# Altium schematic symbol library BLDC_Gimbal_Lib.SCHLIB: 57 symbols (part 1 of 2)
Pins are listed as number, name and electrical type; pins without a type are passive.

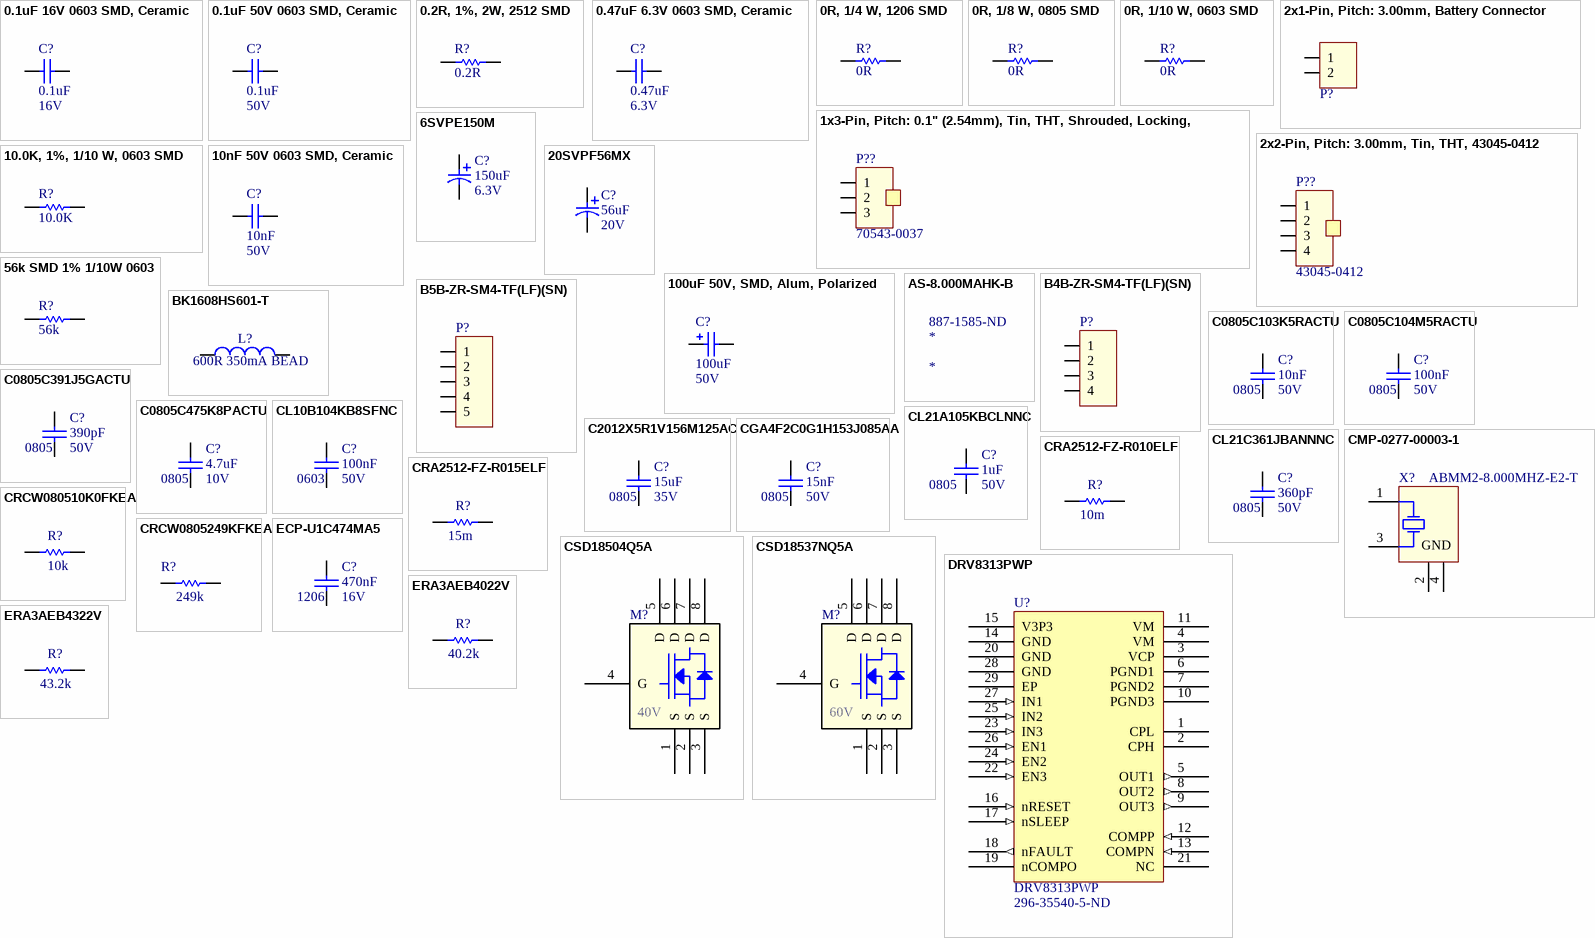
[diagram p0: symbols 0.1uF 16V 0603 SMD, Ceramic to ERA3AEB4322V]

## 0.1uF 16V 0603 SMD, Ceramic
designator C?, comment 0.1uF  Voltage: 16V
Capacitor, Ceramic, 16V, +/- 10%, 0603 SMD, X7R; Mfg#: 0603YC104KAT2A; Mfg: AVX Corporation; Published: 2017-11-16; LatestRevisionDate: 2017-11-16; Publisher: UVic AERO, Taylor Long; PackageDescription: Chip Capacitor; Value: 0.1uF; Supplier 1: Digi-Key; Supplier Part Number 1: 478-1239-1-ND
footprint CAPC1608N(0603") (Chip Capacitor, Body 1.6x0.8mm (0603"), IPC Medium Density)
pins: 1, 2
1 alternate drawing of the same symbol

## 0.1uF 50V 0603 SMD, Ceramic
designator C?, comment 0.1uF  Voltage: 50V
Capacitor, Ceramic, 50V, +/- 10%, 0603 SMD, X7R; Published: May 3, 2010; LatestRevisionDate: May 3, 2010; Publisher: TRAXX Automation Ltd.; PackageDescription: Chip Capacitor; Value: 0.1uF; Supplier 1: Digi-Key; Supplier Part Number 1: 490-1519-1-ND
footprint CAPC1608N(0603") (Chip Capacitor, Body 1.6x0.8mm (0603"), IPC Medium Density)
pins: 1, 2
1 alternate drawing of the same symbol

## 0.2R, 1%, 2W, 2512 SMD
designator R?, comment 0.2R
Resistor, 1%, 2W, 2512 SMD, +/-200ppm/C, Thick Film; Published: 2017-11-16; LatestRevisionDate: 2017-11-16; Publisher: UVic AERO, Taylor Long; PackageDescription: Chip Resistor; Value: 0.2R; Power: 2W; Supplier 1: Digi-Key; Supplier Part Number 1: CSRN2512FKR200CT-ND
footprint RESC6332N(2512") (Chip Resistor, Body 6.3x3.2mm (2512"), IPC Medium Density)
pins: 1, 2
1 alternate drawing of the same symbol

## 0.47uF 6.3V 0603 SMD, Ceramic
designator C?, comment 0.47uF  Voltage: 6.3V
Capacitor, Ceramic, 6.3V, +/- 10%, 0603 SMD, X7R; Mfg#: GRM188R70J474KA01D; Mfg: Murata Electronics North America; Published: 2017-11-16; LatestRevisionDate: 2017-11-16; Publisher: UVic AERO, Taylor Long; PackageDescription: Chip Capacitor; Value: 0.47uF; Supplier 1: Digi-Key; Supplier Part Number 1: 490-6416-1-ND
footprint CAPC1608N(0603") (Chip Capacitor, Body 1.6x0.8mm (0603"), IPC Medium Density)
pins: 1, 2
1 alternate drawing of the same symbol

## 0R, 1/4 W, 1206 SMD
designator R?, comment 0R
Resistor, 0R, 1/4 W, 1206 SMD, +/-200ppm/C, Thick Film; Manufacturer Part Number 1: RC1206JR-070RL; Manufacturer 1: Yageo; Power: 1/4W; Published: May 15, 2011; LatestRevisionDate: Feb 23, 2019; LatestRevisionNote: Added MFG; Publisher: UVic AERO Team; PackageDescription: Chip Resistor; Value: 0R; Supplier 1: Digi-Key; Supplier Part Number 1: 311-0.0ERCT-ND
footprint RESC3216N(1206") (Chip Resistor, Body 3.2x1.6mm(1206"), IPC Medium Density)
pins: 1, 2
1 alternate drawing of the same symbol

## 0R, 1/8 W, 0805 SMD
designator R?, comment 0R
Resistor, 0R, 1/8 W, 0805 SMD, +/-200ppm/C, Thick Film; Manufacturer: Yageo; Manufacturer Part Number: RC0805JR-070RL; Power: 1/8W; Resistance: 0mR; Tolerance: 5%; Voltage Rating: 150V; Power Rating: 125mW; Temperature Coefficient: 200ppm/°C; Published: April 30, 2010; LatestRevisionDate: April 30, 2010; Publisher: TRAXX Automation Ltd.; PackageDescription: Chip Resistor; Value: 0R; Supplier 1: Digi-Key; Supplier Part Number 1: 311-0.0ARCT-ND; Stock 1: 16038844; Pricing 1: 1 = 0.10000, 10 = 0.03900, 25 = 0.02840, 50 = 0.02160, 100 = 0.01590, 250 = 0.01216, 500 = 0.00972, 1000 = 0.00716 (USD); RoHS: Yes; Case/Package: 0805; Number of Pins: 2; Case Code (Imperial): 0805; Case Code (Metric): 2012; Contact Plating: Tin; Min Operating Temperature: -55°C; Max Operating Temperature: 155°C; Packaging: Tape and Reel; Voltage Rating (DC): 150V; Termination: SMD/SMT; Composition: Thick Film; Military Standard: Not; Length: 2mm; Height: 0.5mm; Width: 1.25mm; Depth: 1.25mm; Radiation Hardening: No; REACH SVHC: Unknown; Lead Free: Lead Free; ComponentLink1URL: https://datasheet.ciiva.com/7941/1738694-7941861.pdf?src-supplier=Element14; ComponentLink1Description: https://datasheet.ciiva.com/7941/1738694-7941861.pdf?src-supplier=Element14; ComponentLink2URL: https://datasheet.ciiva.com/11819/0900766b8106beab-11819430.pdf?src-supplier=RSComponents; ComponentLink2Description: https://datasheet.ciiva.com/11819/0900766b8106beab-11819430.pdf?src-supplier=RSComponents; ComponentLink3URL: https://datasheet.ciiva.com/7941/1738694-7941862.pdf?src-supplier=Element14; ComponentLink3Description: https://datasheet.ciiva.com/7941/1738694-7941862.pdf?src-supplier=Element14; ComponentLink4URL: https://datasheet.ciiva.com/7941/1738694-7941863.pdf?src-supplier=Element14; ComponentLink4Description: https://datasheet.ciiva.com/7941/1738694-7941863.pdf?src-supplier=Element14; ComponentLink5URL: https://datasheet.ciiva.com/15190/getdatasheetpartid-330685-15190028.pdf?src-supplier=Verical; ComponentLink5Description: https://datasheet.ciiva.com/15190/getdatasheetpartid-330685-15190028.pdf?src-supplier=Verical
footprint RESC2012N(0805") (Chip Resistor, Body 2.0x1.3mm (0805"), IPC Medium Density)
pins: 1, 2
1 alternate drawing of the same symbol

## 0R, 1/10 W, 0603 SMD
designator R?, comment 0R
Resistor, 0R, 1/10 W, 0603 SMD, 0R, +/-200ppm/C, Thick Film; Power: 1/10W; Published: Jan 14, 2011; Publisher: TRAXX Automation Ltd.; PackageDescription: Chip Resistor; Value: 0R; Supplier 1: Digi-Key; Supplier Part Number 1: 311-0.0GRCT-ND
footprint RESC1608N(0603") (Chip Resistor, Body 1.6x0.8mm (0603"), IPC Medium Density)
pins: 1, 2
1 alternate drawing of the same symbol

## 1x3-Pin, Pitch: 0.1" (2.54mm), Tin, THT, Shrouded, Locking, 70543-0037
designator P??, comment 70543-0037
1x3-Pin, Pitch: 0.1" (2.54mm), Tin, THT, Shrouded, Locking, 70543-0037; Mfg: Molex Inc; ReviewedBy: Matthew Fitz; ReviewedNote: There should be tin pins instead of gold; Publisher: UVic AERO, Kirk Richardson; Published: 2014-03-16; LatestRevisionNote: Changed # of pins from 4 to 3; LatestRevisionDate: 2014-03-18; Mfg#: 70543-0037; ReviewedDate: 2014-03-19; Verified: Yes; Supplier 1: Digi-Key; Supplier Part Number 1: WM4825-ND; LatestRevisionBy: *
footprint Header-3Pin, THT, Shrouded (Header, 3-Pin, 0.1" Pitch, Shrouded, THT)
pins: 1, 2, 3

## 2x1-Pin, Pitch: 3.00mm, Battery Connector
designator P?  (value not drawn)
XT60 - 2x1-Pin, Pitch: 3.00mm, Battery Connector; Publisher: UVic AERO, Luke Mills; Published: 2016-12-15; ReviewedBy: *; ReviewedDate: *; Verified: *
footprint XT60
pins: 1, 2

## 2x2-Pin, Pitch: 3.00mm, Tin, THT, 43045-0412
designator P??, comment 43045-0412
2x2-Pin, Pitch: 3.00mm, Tin, THT, Shrouded, Locking, 43045-0412; Mfg: Molex; ReviewedBy: Kirk Richardson; Publisher: UVic AERO, Taylor Eby; Published: 2014-03-13; LatestRevisionNote: Fixed footprint so it's aligned to pin 1; LatestRevisionDate: 2014-03-23; ReviewedDate: 2014-03-23; Verified: Yes; Supplier 1: Digi-Key; Supplier Part Number 1: WM1790-ND; Mfg#: 43045-0412; LatestRevisionBy: Kirk Richardson; ReviewedNote: *
footprint Header-4Pin, 2x2, THT, Locking, Tin (Header, 4-Pin, 2x2, 3mm Pitch, Locking, Shrouded, THT, Tin)
pins: 1, 2, 3, 4

## 6SVPE150M
designator C?  Voltage: 6.3V  Capacitance: 150uF  (hidden comment: *)
CAP ALUM POLY 150UF 20% 6.3V SMD; Manufacturer: Panasonic; Manufacturer Part Number: 6SVPE150M; ESR (Equivalent Series Resistance): 12mR; Ripple Current: 3.52A; Leakage Current: 500uA; Polarity: Polar; Life (Hours): 2000Hour; Dissipation Factor: 12%; Supplier 1: Digi-Key; Stock 1: 8524; Pricing 1: 1 = 1.00000, 10 = 0.75800, 100 = 0.54210, 500 = 0.41972 (USD); RoHS: Yes; Mount: Surface Mount; Case/Package: Radial; Number of Pins: 6; Min Operating Temperature: -55°C; Max Operating Temperature: 105°C; Tolerance: 20%; Voltage Rating: 6.3V; Packaging: Tape and Reel; Voltage Rating (DC): 6.3V; Package Quantity: 1500; Ripple Current (AC): 3.52A; Termination: SMD/SMT; Diameter: 5mm; Length: 5.9mm; Height: 5.9mm; Height - Seated (Max): 0.236inch; REACH SVHC: No SVHC; Lead Free: Lead Free; ComponentLink1URL: https://datasheet.ciiva.com/25767/1734359-25767741.pdf?src-supplier=Farnell; ComponentLink1Description: https://datasheet.ciiva.com/25767/1734359-25767741.pdf?src-supplier=Farnell; Supplier Part Number 1: P16614CT-ND
footprint PCAP_SVP_B6-M
pins: 1, 2

## 10.0K, 1%, 1/10 W, 0603 SMD
designator R?, comment 10.0K
Resistor, 1%, 1/10 W, 0603 SMD, 10.0K, +/-100ppm/C, Thick Film; Power: 1/10W; Published: Jan 14, 2011; Publisher: TRAXX Automation Ltd.; PackageDescription: Chip Resistor; Value: 10.0K; Supplier 1: Digi-Key; Supplier Part Number 1: 311-10.0KHRCT-ND
footprint RESC1608N(0603") (Chip Resistor, Body 1.6x0.8mm (0603"), IPC Medium Density)
pins: 1, 2
1 alternate drawing of the same symbol

## 10nF 50V 0603 SMD, Ceramic
designator C?, comment 10nF  Voltage: 50V
Capacitor, Ceramic, 50V, +/- 10%, 0603 SMD, X7R; Published: March 28, 2012; Publisher: UVic AERO; PackageDescription: Chip Capacitor; Value: 10nF; Supplier 1: Digi-Key; Supplier Part Number 1: 399-1091-1-ND
footprint CAPC1608N(0603") (Chip Capacitor, Body 1.6x0.8mm (0603"), IPC Medium Density)
pins: 1, 2
1 alternate drawing of the same symbol

## 20SVPF56MX
designator C?  Voltage: 20V  Capacitance: 56uF  (hidden comment: *)
CAP ALUM POLY 56UF 20% 20V SMD; Manufacturer: Panasonic; Manufacturer Part Number: 20SVPF56MX; ESR (Equivalent Series Resistance): 30mR; Ripple Current: 2.8A; Polarity: Polar; Leakage Current: 224uA; Life (Hours): 5000Hour; Dissipation Factor: 12%; Supplier 1: Digi-Key; Stock 1: 4599; Pricing 1: 1 = 1.02000, 10 = 0.80900, 100 = 0.60650, 500 = 0.45826 (USD); RoHS: Yes; Mount: Surface Mount; Number of Pins: 6; Min Operating Temperature: -55°C; Max Operating Temperature: 105°C; Tolerance: 20%; Packaging: Tape and Reel; Voltage Rating: 20V; Ripple Current (AC): 2.8A; Package Quantity: 1500; Voltage Rating (DC): 20V; Termination: SMD/SMT; Diameter: 5mm; Length: 5.9mm; Height: 5.9mm; Height - Seated (Max): 0.236inch; REACH SVHC: No SVHC; ComponentLink1URL: https://datasheet.ciiva.com/25746/1734360-25746730.pdf?src-supplier=Farnell; ComponentLink1Description: https://datasheet.ciiva.com/25746/1734360-25746730.pdf?src-supplier=Farnell; ComponentLink2URL: https://datasheet.ciiva.com/24066/svpf-os-262415-24066271.pdf?src-supplier=Mouser; ComponentLink2Description: https://datasheet.ciiva.com/24066/svpf-os-262415-24066271.pdf?src-supplier=Mouser; ComponentLink3URL: https://datasheet.ciiva.com/48542/svpf-eng-ds-48542383.pdf?src-supplier=Distrelec; ComponentLink3Description: https://datasheet.ciiva.com/48542/svpf-eng-ds-48542383.pdf?src-supplier=Distrelec; Case/Package: Radial; Supplier Part Number 1: P16502CT-ND
footprint PCAP_SVP_B6-M
pins: 1, 2

## 56k SMD 1% 1/10W 0603
designator R?, comment 56k
±1% 0.1W, 1/10W Chip Resistor 0603; Published: 2017-10-20; LatestRevisionDate: *; LatestRevisionNote: *; Publisher: UVic AERO, David Alaga; PackageDescription: Chip Resistor; Value: 56k; Power: 1/10W; LatestRevisionBy: *; Supplier 1: Digi-Key; Supplier Part Number 1: YAG3619CT-ND
footprint RESC1608N(0603") (Chip Resistor, Body 1.6x0.8mm (0603"), IPC Medium Density)
pins: 1, 2
1 alternate drawing of the same symbol

## 100uF 50V, SMD, Alum, Polarized
designator C?, comment 100uF  Voltage: 50V
Capacitor, Polarized, Aluminum, 50V, +/- 20%, SMD; Mfg#: EEE-1HA101UP; Mfg: Panasonic; Published: 2017-11-16; LatestRevisionDate: 2017-11-16; Publisher: UVic AERO, Taylor Long; PackageDescription: Radial, Can - SMD; Value: 100uF; Supplier 1: Digi-Key; Supplier Part Number 1: PCE3917CT-ND
footprint CAPAE10083X105M (Aluminum Electrolytic Capacitor, Body 8.30x8.30x10.50mm, IPC Low Density)
pins: 1, 2
1 alternate drawing of the same symbol

## AS-8.000MAHK-B
designator *  Supplier Part Number 1: 887-1585-ND
Crystals 8MHz 30ppm 20pF -40C to 85C; Manufacturer: TXC; Manufacturer Part Number: AS-8.000MAHK-B; ESR (Equivalent Series Resistance): 80R; Supplier 1: Digi-Key; Stock 1: 3402; Pricing 1: 1 = 0.57000, 10 = 0.47300, 50 = 0.42520, 100 = 0.37800, 500 = 0.35910, 1000 = 0.30240, 2500 = 0.28350, 5000 = 0.27405, 10000 = 0.26460 (USD); RoHS: Yes; Mount: Through Hole; Number of Pins: 2; Min Operating Temperature: -40°C; Max Operating Temperature: 85°C; Frequency: 8MHz; Frequency Tolerance: 30ppm; Load Capacitance: 20pF; Package Quantity: 1000; Packaging: Bulk; Tolerance: 30ppm; Frequency Stability: 30ppm; Termination: Radial; Length: 11.5mm; Height: 0.145inch; Width: 0.197inch; Depth: 5mm; Ratings: AEC-Q200; REACH SVHC: No SVHC; ComponentLink1URL: https://datasheet.ciiva.com/8047/1639152-8047962.pdf?src-supplier=Element14; ComponentLink1Description: https://datasheet.ciiva.com/8047/1639152-8047962.pdf?src-supplier=Element14

## B4B-ZR-SM4-TF(LF)(SN)
designator P?  (value not drawn)
Conn Shrouded Header HDR 4 POS 1.5mm Solder ST SMD T/R; Manufacturer: JST; Number of Positions: 4; Current Rating: 1A; Gender: Male; Connector Type: Male Pin; Contact Resistance: 30mR; Max Voltage Rating (AC): 50V; Supplier 1: Digi-Key; Manufacturer Part Number: B4B-ZR-SM4-TF(LF)(SN); Stock 1: 27718; Pricing 1: 1 = 0.71000, 10 = 0.67000, 100 = 0.51380, 500 = 0.44682 (USD); RoHS: Yes; Mount: Surface Mount; Contact Plating: Tin; Contact Material: Tin; Color: Natural; Housing Color: Beige; Housing Material: Polyamide; Min Operating Temperature: -25°C; Max Operating Temperature: 85°C; Number of Rows: 1; Packaging: Tape and Reel; Termination: Solder; Number of Contacts: 4; Max Current Rating: 1A; Fastening Type: Detent; Orientation: Straight; Length: 9mm; Height: 7.2mm; Pitch: 1.5mm; Width: 3.5mm; Depth: 3.7mm; Lead Free: Lead Free; ComponentLink1URL: https://datasheet.ciiva.com/26924/getdatasheetpartid-640935-26924037.pdf?src-supplier=Verical; ComponentLink1Description: https://datasheet.ciiva.com/26924/getdatasheetpartid-640935-26924037.pdf?src-supplier=Verical; Supplier Part Number 1: 455-1683-1-ND
footprint 1x4-PIN ZH 1.5mm Pitch
pins: 1, 2, 3, 4

## B5B-ZR-SM4-TF(LF)(SN)
designator P?  (value not drawn)
CONN HEADER ZH TOP 5POS 1.5MM; Manufacturer: JST; Manufacturer Part Number: B5B-ZR-SM4-TF(LF)(SN); Number of Positions: 5; Gender: Male; Current Rating: 1A; Connector Type: Male Pin; Pitch: 0.059inch; Supplier 1: Digi-Key; Stock 1: 52019; Pricing 1: 1 = 0.790000, 10 = 0.742000, 100 = 0.568600, 500 = 0.494420 (USD); RoHS: Yes; Mount: Surface Mount; Contact Material: Tin; Contact Plating: Tin; Housing Color: Natural; Housing Material: Nylon; Color: Natural; Number of Rows: 1; Packaging: Tape and Reel; Number of Contacts: 5; Termination: Solder; Fastening Type: Detent; Length: 10.5mm; Height: 7.2mm; Width: 3.5mm; Lead Free: Lead Free; ComponentLink1URL: http://www.jst-mfg.com/product/pdf/eng/eZH.pdf?src-supplier=Digi-Key; ComponentLink1Description: http://www.jst-mfg.com/product/pdf/eng/eZH.pdf?src-supplier=Digi-Key; ComponentLink2URL: http://www.jst-mfg.com/product/pdf/eng/eZR.pdf?src-supplier=Future+Electronics; ComponentLink2Description: http://www.jst-mfg.com/product/pdf/eng/eZR.pdf?src-supplier=Future+Electronics; Supplier Part Number 1: 455-1684-1-ND
footprint 1x5-PIN ZH 1.5mm Pitch
pins: 1, 2, 3, 4, 5

## BK1608HS601-T
designator L?, comment 600R 350mA BEAD
FERRITE BEAD 600 OHM 0603 1LN; Manufacturer: Taiyo Yuden; Manufacturer Part Number: BK1608HS601-T; Tolerance: 25%; DC Resistance (DCR): 450mR; Test Frequency: 100MHz; Number of Lines: 1; Shielding: Shielded; Supplier 1: Digi-Key; Stock 1: 27923; Pricing 1: 1 = 0.10000, 10 = 0.07900, 25 = 0.07200, 50 = 0.06480, 100 = 0.04760, 250 = 0.03460, 500 = 0.03170, 1000 = 0.02738 (USD); RoHS: Yes; Mount: Surface Mount; Case/Package: 0603; Number of Pins: 2; Core Material: Ferrite; Case Code (Metric): 1608; Case Code (Imperial): 0603; Min Operating Temperature: -55°C; Max Operating Temperature: 125°C; Packaging: Tape and Reel; Package Quantity: 1; Impedance: 600R; Max DC Current: 350mA; Termination: SMD/SMT; Max Current Rating: 350mA; Frequency: 100MHz; Length: 0.063inch; Height: 0.95mm; Width: 0.031inch; Depth: 0.95mm; Lead Free: Lead Free; Halogen Free: Halogen Free; REACH SVHC: Unknown; ComponentLink1URL: https://datasheet.ciiva.com/1011/bk1608hs601-t-ss-1011856.pdf?src-supplier=Digi-Key; ComponentLink1Description: https://datasheet.ciiva.com/1011/bk1608hs601-t-ss-1011856.pdf?src-supplier=Digi-Key; ComponentLink2URL: https://datasheet.ciiva.com/30231/126bk1608hs601-t-30231402.pdf?src-supplier=Onlinecomponents.com; ComponentLink2Description: https://datasheet.ciiva.com/30231/126bk1608hs601-t-30231402.pdf?src-supplier=Onlinecomponents.com; ComponentLink3URL: https://datasheet.ciiva.com/16000/bk1608hs601-t1-16000876.pdf?src-supplier=Onlinecomponents.com; ComponentLink3Description: https://datasheet.ciiva.com/16000/bk1608hs601-t1-16000876.pdf?src-supplier=Onlinecomponents.com; ComponentLink4URL: https://datasheet.ciiva.com/1011/mlci07-e-1011857.pdf?src-supplier=Digi-Key; ComponentLink4Description: https://datasheet.ciiva.com/1011/mlci07-e-1011857.pdf?src-supplier=Digi-Key; ComponentLink5URL: https://datasheet.ciiva.com/1011/mlci07-e-1011855.pdf?src-supplier=Digi-Key; ComponentLink5Description: https://datasheet.ciiva.com/1011/mlci07-e-1011855.pdf?src-supplier=Digi-Key; Supplier Part Number 1: 587-1874-1-ND
footprint RESC1608N(0603") (Chip Resistor, Body 1.6x0.8mm (0603"), IPC Medium Density)
pins: 1, 2

## C0805C103K5RACTU
designator C?, comment 10nF  Case/Package: 0805  Voltage Rating: 50V
CAP CER 10nF 50V, +/- 10%, 0805 SMD, X7R C0805C103K5RACTU; Manufacturer: KEMET; Dielectric Material: Ceramic; Published: August 31, 2013; Publisher: UVic AERO; PackageDescription: Chip Capacitor; Value: 10nF; Supplier 1: Digi-Key; Supplier Part Number 1: 399-1158-1-ND; Supplier 2: Allied Electronics; Manufacturer Part Number: C0805C103K5RACTU; Stock 2: 0; RoHS: Yes; Mount: Surface Mount; Number of Pins: 2; Case Code (Metric): 2012; Case Code (Imperial): 0805; Min Operating Temperature: -55°C; Max Operating Temperature: 125°C; Voltage Rating (DC): 50V; Capacitance: 10nF; Tolerance: 10%; Packaging: Tape and Reel; Dielectric: X7R; Package Quantity: 1; Termination: SMD/SMT; Length: 2mm; Height: 0.78mm; Width: 0.049inch; Lead Pitch: 0.75mm; Depth: 1.25mm; Thickness: 0.035inch; Radiation Hardening: No; REACH SVHC: No SVHC; ComponentLink1URL: https://datasheet.ciiva.com/5904/kem-c1002-x7r-smd-5904709.pdf?src-supplier=Farnell; ComponentLink1Description: https://datasheet.ciiva.com/5904/kem-c1002-x7r-smd-5904709.pdf?src-supplier=Farnell; ComponentLink2URL: https://datasheet.ciiva.com/28672/1851736-28672830.pdf?src-supplier=Element14; ComponentLink2Description: https://datasheet.ciiva.com/28672/1851736-28672830.pdf?src-supplier=Element14; ComponentLink3URL: https://datasheet.ciiva.com/7842/kem-c1002-x7r-smd-7842533.pdf?src-supplier=Element14; ComponentLink3Description: https://datasheet.ciiva.com/7842/kem-c1002-x7r-smd-7842533.pdf?src-supplier=Element14; ComponentLink4URL: https://datasheet.ciiva.com/26923/getdatasheetpartid-759674-26923957.pdf?src-supplier=Verical; ComponentLink4Description: https://datasheet.ciiva.com/26923/getdatasheetpartid-759674-26923957.pdf?src-supplier=Verical; ComponentLink5URL: https://datasheet.ciiva.com/39122/docfinderpartnumberc0402c102k5ractu-39122923.pdf?src-supplier=Onlinecomponents.com; ComponentLink5Description: https://datasheet.ciiva.com/39122/docfinderpartnumberc0402c102k5ractu-39122923.pdf?src-supplier=Onlinecomponents.com; ComponentLink6URL: https://datasheet.ciiva.com/7172/1828800-7172412.pdf?src-supplier=Newark; ComponentLink6Description: https://datasheet.ciiva.com/7172/1828800-7172412.pdf?src-supplier=Newark; Supplier Part Number 2: 70095550
footprint CAPC2012N(0805") (Chip Capacitor, Body 2.0x1.3mm (0805"), IPC Medium Density)
pins: 1, 2
1 alternate drawing of the same symbol

## C0805C104M5RACTU
designator C?  Capacitance: 100nF  Voltage: 50V  Case/Package: 0805  (hidden comment: *)
CAP CER 0.1UF 50V X7R 0805; Manufacturer: KEMET; Manufacturer Part Number: C0805C104M5RACTU; Dielectric Material: Ceramic; Tolerance: 20%; Dissipation Factor: 2.5%; Supplier 1: Mouser; Stock 1: 425898; Pricing 1: 1 = 0.10000, 10 = 0.03500, 50 = 0.03500, 100 = 0.02400, 1000 = 0.01600, 10000 = 0.01100 (USD); RoHS: Yes; Mount: Surface Mount; Number of Pins: 2; Weight: 0.000194oz; Case Code (Metric): 2012; Case Code (Imperial): 0805; Min Operating Temperature: -55°C; Max Operating Temperature: 125°C; Packaging: Tape and Reel; Voltage Rating (DC): 50V; Package Quantity: 4000; Voltage Rating: 50V; Termination: SMD/SMT; Length: 2mm; Height: 0.9mm; Depth: 1.25mm; Width: 0.049inch; Thickness: 0.035inch; Radiation Hardening: No; REACH SVHC: No SVHC; ComponentLink1URL: https://datasheet.ciiva.com/14593/70095383-14593577.pdf?src-supplier=Allied+Electronics; ComponentLink1Description: https://datasheet.ciiva.com/14593/70095383-14593577.pdf?src-supplier=Allied+Electronics; ComponentLink2URL: https://datasheet.ciiva.com/14610/70095383-14610619.pdf?src-supplier=Allied+Electronics; ComponentLink2Description: https://datasheet.ciiva.com/14610/70095383-14610619.pdf?src-supplier=Allied+Electronics; ComponentLink3URL: https://datasheet.ciiva.com/7842/1851736-7842540.pdf?src-supplier=Element14; ComponentLink3Description: https://datasheet.ciiva.com/7842/1851736-7842540.pdf?src-supplier=Element14; Supplier Part Number 1: 80-C0805C104M5R; Dielectric: X7R
footprint CAPC2012N(0805") (Chip Capacitor, Body 2.0x1.3mm (0805"), IPC Medium Density)
pins: 1, 2

## C0805C391J5GACTU
designator C?  Voltage: 50V  Case/Package: 0805  Capacitance: 390pF  (hidden comment: *)
CAP CER 390PF 50V C0G/NP0 0805; Manufacturer: KEMET; Manufacturer Part Number: C0805C391J5GACTU; Dielectric Material: Ceramic; Tolerance: 5%; Dielectric: C0G; Dissipation Factor: 0.1%; Supplier 1: Digi-Key; Stock 1: 200410; Pricing 1: 1 = 0.16000, 10 = 0.11500, 100 = 0.05400, 500 = 0.03788, 1000 = 0.03136 (USD); RoHS: Yes; Mount: Surface Mount; Case Code (Metric): 2012; Case Code (Imperial): 0805; Contact Material: Tin; Min Operating Temperature: -55°C; Max Operating Temperature: 125°C; Package Quantity: 1; Voltage Rating: 50V; Packaging: Tape and Reel; Voltage Rating (DC): 50V; Termination: SMD/SMT; Length: 2mm; Height: 0.78mm; Width: 0.049inch; Thickness: 0.035inch; Lead Pitch: 0.75mm; Depth: 1.25mm; Radiation Hardening: No; REACH SVHC: No SVHC; Lead Free: Lead Free; ComponentLink1URL: https://datasheet.ciiva.com/144/docfinderpartnumber-c0805c391j5gactu-144976.pdf?src-supplier=Digi-Key; ComponentLink1Description: https://datasheet.ciiva.com/144/docfinderpartnumber-c0805c391j5gactu-144976.pdf?src-supplier=Digi-Key; ComponentLink2URL: https://datasheet.ciiva.com/18100/getdatasheetpartid-35246-18100917.pdf?src-supplier=Verical; ComponentLink2Description: https://datasheet.ciiva.com/18100/getdatasheetpartid-35246-18100917.pdf?src-supplier=Verical; ComponentLink3URL: https://datasheet.ciiva.com/14601/70095383-14601640.pdf?src-supplier=Allied+Electronics; ComponentLink3Description: https://datasheet.ciiva.com/14601/70095383-14601640.pdf?src-supplier=Allied+Electronics; ComponentLink4URL: https://datasheet.ciiva.com/7842/1372242-7842602.pdf?src-supplier=Element14; ComponentLink4Description: https://datasheet.ciiva.com/7842/1372242-7842602.pdf?src-supplier=Element14; ComponentLink5URL: https://datasheet.ciiva.com/49516/1567367-49516570.pdf?src-supplier=Jameco; ComponentLink5Description: https://datasheet.ciiva.com/49516/1567367-49516570.pdf?src-supplier=Jameco; Supplier Part Number 1: 399-1132-1-ND
footprint CAPC2012N(0805") (Chip Capacitor, Body 2.0x1.3mm (0805"), IPC Medium Density)
pins: 1, 2

## C0805C475K8PACTU
designator C?, comment 4.7uF  Case/Package: 0805  Voltage Rating (DC): 10V
CAP CER 4.7UF 10V, +/- 10%, 0805 SMD, X7R; Manufacturer: KEMET; Manufacturer Part Number: C0805C475K8PACTU; Dielectric Material: Ceramic; Dielectric: X5R; Published: April 29, 2010; LatestRevisionDate: April 29, 2010; Publisher: TRAXX Automation Ltd.; PackageDescription: Chip Capacitor; Value: 4.7uF; Supplier 1: Digi-Key; Supplier Part Number 1: 399-3133-1-ND; Stock 1: 393227; Pricing 1: 1 = 0.29000, 10 = 0.19500, 100 = 0.09860, 500 = 0.06746, 1000 = 0.05967 (USD); RoHS: Yes; Mount: Surface Mount; Min Operating Temperature: -55°C; Max Operating Temperature: 85°C; Tolerance: 10%; Packaging: Tape and Reel; Capacitance: 4.7uF; Length: 2mm; Height: 1.25mm; Depth: 1.25mm; Radiation Hardening: No; Lead Free: Lead Free; ComponentLink1URL: https://datasheet.ciiva.com/18193/getdatasheetpartid-179373-18193909.pdf?src-supplier=Verical; ComponentLink1Description: https://datasheet.ciiva.com/18193/getdatasheetpartid-179373-18193909.pdf?src-supplier=Verical; ComponentLink2URL: https://datasheet.ciiva.com/6126/40889-6126699.pdf?src-supplier=Farnell; ComponentLink2Description: https://datasheet.ciiva.com/6126/40889-6126699.pdf?src-supplier=Farnell; ComponentLink3URL: https://datasheet.ciiva.com/28614/1918694-28614763.pdf?src-supplier=Element14; ComponentLink3Description: https://datasheet.ciiva.com/28614/1918694-28614763.pdf?src-supplier=Element14; ComponentLink4URL: https://datasheet.ciiva.com/7842/40889-7842616.pdf?src-supplier=Element14; ComponentLink4Description: https://datasheet.ciiva.com/7842/40889-7842616.pdf?src-supplier=Element14; ComponentLink5URL: https://datasheet.ciiva.com/46385/1791935-46385676.pdf?src-supplier=Element14; ComponentLink5Description: https://datasheet.ciiva.com/46385/1791935-46385676.pdf?src-supplier=Element14
footprint CAPC2012N(0805") (Chip Capacitor, Body 2.0x1.3mm (0805"), IPC Medium Density)
pins: 1, 2
1 alternate drawing of the same symbol

## C2012X5R1V156M125AC
designator C?  Voltage Rating: 35V  Case/Package: 0805  Capacitance: 15uF  (hidden comment: *)
CAP CER 15UF 35V X5R 0805; Manufacturer: TDK; Manufacturer Part Number: C2012X5R1V156M125AC; Dielectric Material: Ceramic; Tolerance: 20%; Supplier 1: Digi-Key; Stock 1: 48431; Pricing 1: 1 = 0.85000, 10 = 0.62800, 100 = 0.43060, 500 = 0.34086, 1000 = 0.28704 (USD); RoHS: Yes; Mount: Surface Mount; Case Code (Metric): 2012; Case Code (Imperial): 0805; Min Operating Temperature: -55°C; Max Operating Temperature: 85°C; Package Quantity: 2000; Packaging: Tape and Reel; Dielectric: X5R; Termination: SMD/SMT; Composition: Ceramic; Voltage Rating (DC): 35V; Length: 0.079inch; Height: 1.25mm; Width: 0.049inch; Thickness: 0.057inch; Lead Free: Lead Free; ComponentLink1URL: https://datasheet.ciiva.com/14893/tdkmlcccaprange-14893918.pdf?src-supplier=Digi-Key; ComponentLink1Description: https://datasheet.ciiva.com/14893/tdkmlcccaprange-14893918.pdf?src-supplier=Digi-Key; ComponentLink2URL: https://datasheet.ciiva.com/14893/tdkmlcccaprange-14893919.pdf?src-supplier=Digi-Key; ComponentLink2Description: https://datasheet.ciiva.com/14893/tdkmlcccaprange-14893919.pdf?src-supplier=Digi-Key; Supplier Part Number 1: 445-14423-1-ND
footprint CAPC2012N(0805") (Chip Capacitor, Body 2.0x1.3mm (0805"), IPC Medium Density)
pins: 1, 2

## CGA4F2C0G1H153J085AA
designator C?  Voltage Rating: 50V  Case/Package: 0805  Capacitance: 15nF  (hidden comment: *)
CAP, 0.015µF, 50V, 5%, C0G/NP0, 0805; Manufacturer: TDK; Manufacturer Part Number: CGA4F2C0G1H153J085AA; Dielectric: C0G; Supplier 1: Digi-Key; Stock 1: 25718; Pricing 1: 1 = 0.33000, 10 = 0.23000, 100 = 0.13800, 500 = 0.10350, 1000 = 0.08740 (USD); RoHS: Yes; Mount: Surface Mount; Weight: 0.000194oz; Case Code (Metric): 2012; Case Code (Imperial): 0805; Min Operating Temperature: -55°C; Max Operating Temperature: 125°C; Tolerance: 5%; Packaging: Tape and Reel; Voltage Rating (DC): 50V; Termination: SMD/SMT; Package Quantity: 1; Composition: Ceramic; Length: 2mm; Height: 0.85mm; Depth: 1.25mm; Width: 0.049inch; Thickness: 0.037inch; Ratings: AEC-Q200; Lead Free: Lead Free; REACH SVHC: No SVHC; ComponentLink1URL: https://datasheet.ciiva.com/24218/cga4f2c0g1h153j085aa-265904-24218633.pdf?src-supplier=Mouser; ComponentLink1Description: https://datasheet.ciiva.com/24218/cga4f2c0g1h153j085aa-265904-24218633.pdf?src-supplier=Mouser; ComponentLink2URL: https://datasheet.ciiva.com/7975/1807242-7975403.pdf?src-supplier=Element14; ComponentLink2Description: https://datasheet.ciiva.com/7975/1807242-7975403.pdf?src-supplier=Element14; Supplier Part Number 1: 445-6948-1-ND
footprint CAPC2012N(0805") (Chip Capacitor, Body 2.0x1.3mm (0805"), IPC Medium Density)
pins: 1, 2

## CL10B104KB8SFNC
designator C?, comment 100nF  Case Code (Imperial): 0603  Voltage Rating: 50V
CAP CER 0.1UF 50V X7R 0603; Manufacturer: Samsung; Manufacturer Part Number: CL10B104KB8SFNC; Tolerance: 10%; Supplier 1: Digi-Key; Stock 1: 1859763; Pricing 1: 1 = 0.10000, 10 = 0.02900, 100 = 0.01300, 500 = 0.00928, 1000 = 0.00729 (USD); RoHS: Yes; Mount: Surface Mount; Case/Package: 0603; Case Code (Metric): 1608; Contact Plating: Tin; Min Operating Temperature: -55°C; Max Operating Temperature: 125°C; Package Quantity: 4000; Packaging: Tape and Reel; Capacitance: 100nF; Dielectric: X7R; Features: Soft Termination; Length: 1.6mm; Height: 0.8mm; Width: 0.031inch; Thickness: 0.035inch; Depth: 0.8mm; Radiation Hardening: No; Lead Free: Lead Free; ComponentLink1URL: https://datasheet.ciiva.com/25714/cl10b104kb8sfnc-25714514.pdf?src-supplier=Digi-Key; ComponentLink1Description: https://datasheet.ciiva.com/25714/cl10b104kb8sfnc-25714514.pdf?src-supplier=Digi-Key; Supplier Part Number 1: 1276-1936-1-ND
footprint CAPC1608N(0603") (Chip Capacitor, Body 1.6x0.8mm (0603"), IPC Medium Density)
pins: 1, 2

## CL21A105KBCLNNC
designator C?  Voltage Rating: 50V  Case/Package: 0805  Capacitance: 1uF  (hidden comment: *)
CAP CER 1uF 50V X5R 10% SMD 0805 85C Cardboard T/R; Manufacturer: Samsung; Manufacturer Part Number: CL21A105KBCLNNC; Supplier 1: Digi-Key; Stock 1: 343658; Pricing 1: 1 = 0.17000, 10 = 0.11400, 100 = 0.05780, 500 = 0.03954, 1000 = 0.03498 (USD); RoHS: Yes; Mount: Surface Mount; Case Code (Metric): 2012; Case Code (Imperial): 0805; Min Operating Temperature: -55°C; Max Operating Temperature: 85°C; Tolerance: 10%; Package Quantity: 1; Packaging: Tape and Reel; Dielectric: X5R; Length: 2mm; Height: 0.85mm; Width: 0.049inch; Depth: 1.25mm; Thickness: 0.037inch; Radiation Hardening: No; Lead Free: Lead Free; ComponentLink1URL: https://datasheet.ciiva.com/25775/cl21a105kbclnnc-25775425.pdf?src-supplier=Digi-Key; ComponentLink1Description: https://datasheet.ciiva.com/25775/cl21a105kbclnnc-25775425.pdf?src-supplier=Digi-Key; Supplier Part Number 1: 1276-2396-1-ND
footprint CAPC2012N(0805") (Chip Capacitor, Body 2.0x1.3mm (0805"), IPC Medium Density)
pins: 1, 2

## CL21C361JBANNNC
designator C?  Voltage Rating: 50V  Case/Package: 0805  Capacitance: 360pF  (hidden comment: *)
CAP CER 360pF 50V C0G 5% SMD 0805 125C Paper T/R; Manufacturer: Samsung; Manufacturer Part Number: CL21C361JBANNNC; Material: Ceramic; Supplier 1: Digi-Key; Stock 1: 20000; Pricing 1: 4000 = 0.02290, 8000 = 0.02130, 12000 = 0.02024 (USD); RoHS: Yes; Mount: Surface Mount; Case Code (Metric): 2012; Case Code (Imperial): 0805; Min Operating Temperature: -55°C; Max Operating Temperature: 125°C; Tolerance: 5%; Dielectric: C0G; Package Quantity: 1; Packaging: Tape and Reel; Voltage Rating (DC): 50V; Length: 2mm; Height: 0.65mm; Depth: 1.25mm; Width: 0.049inch; Thickness: 0.03inch; Radiation Hardening: No; ComponentLink1URL: https://datasheet.ciiva.com/25772/cl21c361jbannnc-25772337.pdf?src-supplier=Digi-Key; ComponentLink1Description: https://datasheet.ciiva.com/25772/cl21c361jbannnc-25772337.pdf?src-supplier=Digi-Key; ComponentLink2URL: https://datasheet.ciiva.com/29200/453725-da-01-en-vs-kondensator-0805-29200056.pdf?src-supplier=Conrad; ComponentLink2Description: https://datasheet.ciiva.com/29200/453725-da-01-en-vs-kondensator-0805-29200056.pdf?src-supplier=Conrad; Supplier Part Number 1: 1276-2650-2-ND
footprint CAPC2012N(0805") (Chip Capacitor, Body 2.0x1.3mm (0805"), IPC Medium Density)
pins: 1, 2

## CMP-0277-00003-1
designator X?, comment ABMM2-8.000MHZ-E2-T
Ceramic Surface Mount Low Profile Quartz Crystal, 8 MHz, -20 to 70 degC, 4-Pin 6 x 3.6 x 1.2 mm SMD, RoHS, 1000pcs / Reel; Manufacturer: Abracon; ESR: 72 Ohm Max.; Frequency: 8 MHz; Shunt Capacitance C0: 7 pF Max.; Load Capacitance CL: 18 pF Typ.; Frequency Tolerance: 20ppm; Load Capacitance: 18pF; ESR (Equivalent Series Resistance): 72R; ComponentLink3Description: Package Specification; PackageDescription: 4-Pin SMD, Body 6 x 3.6 mm, Pitch 4.4 mm; DatasheetVersion: Jan-13; ComponentLink1URL: http://www.abracon.com/; ComponentLink2URL: http://www.abracon.com/Resonators/ABMM2.pdf; Temperature Range: -20 to 70 degC; Mounting Technology: Surface Mount; RoHS: TRUE; PartNumber: ABMM2-8.000MHZ-E2-T; ComponentLink2Description: Datasheet; ComponentLink3URL: http://www.abracon.com/Resonators/ABMM2.pdf; ComponentLink1Description: Manufacturer URL; Packing: 1000pcs / Reel; Supplier 1: Digi-Key; Manufacturer Part Number: ABMM2-8.000MHZ-E2-T; Stock 1: 53374; Pricing 1: 1 = 0.72000, 10 = 0.63300, 50 = 0.59120, 100 = 0.52250, 500 = 0.49500 (USD); Case/Package: CSMD; Number of Pins: 4; Min Operating Temperature: -20°C; Max Operating Temperature: 70°C; Tolerance: 20ppm; Package Quantity: 1000; Packaging: Tape and Reel; Frequency Stability: 20ppm; Termination: SMD/SMT; Composition: Ceramic; Series Resistance: 72R; Accuracy: 20ppm; Length: 6mm; Height: 0.047inch; Width: 3.6mm; Depth: 3.6mm; REACH SVHC: No SVHC; Lead Free: Lead Free; ComponentLink4URL: https://datasheet.ciiva.com/7998/1682206-7998656.pdf?src-supplier=Element14; ComponentLink4Description: https://datasheet.ciiva.com/7998/1682206-7998656.pdf?src-supplier=Element14; ComponentLink5URL: https://datasheet.ciiva.com/4945/abmm2-40161-4945441.pdf?src-supplier=Mouser; ComponentLink5Description: https://datasheet.ciiva.com/4945/abmm2-40161-4945441.pdf?src-supplier=Mouser; ComponentLink6URL: https://datasheet.ciiva.com/3176/abmm2-3176155.pdf?src-supplier=Avnet; ComponentLink6Description: https://datasheet.ciiva.com/3176/abmm2-3176155.pdf?src-supplier=Avnet; ComponentLink7URL: https://datasheet.ciiva.com/855/abmm2-855405.pdf?src-supplier=Digi-Key; ComponentLink7Description: https://datasheet.ciiva.com/855/abmm2-855405.pdf?src-supplier=Digi-Key; ComponentLink8URL: https://datasheet.ciiva.com/855/abmm2-855406.pdf?src-supplier=Digi-Key; ComponentLink8Description: https://datasheet.ciiva.com/855/abmm2-855406.pdf?src-supplier=Digi-Key; ComponentLink9URL: https://datasheet.ciiva.com/855/abmm2-855407.pdf?src-supplier=Digi-Key; ComponentLink9Description: https://datasheet.ciiva.com/855/abmm2-855407.pdf?src-supplier=Digi-Key; Supplier Part Number 1: 535-9628-1-ND
footprint ABRA-ABMM2-4_V (SMD, 4-Leads, Body 6.2x3.9mm, Pitch 4.4mm, Height 1.2mm)
pins: 1 X1, 2 GND (power), 3 X2, 4 GND (power)

## CRA2512-FZ-R010ELF
designator R?  Resistance: 10m  (hidden comment: *)
RES SMD 10 MOHM, 2512 [6432 Metric], 3 W,  1%, CR Series; Manufacturer: Bourns; Manufacturer Part Number: CRA2512-FZ-R010ELF; Power Rating: 3W; Temperature Coefficient: 75ppm/°C; Supplier 1: Allied Electronics; Stock 1: 0; Pricing 1: 8000 = 0.22000 (USD); RoHS: Yes; Mount: Surface Mount; Case/Package: 2512; Number of Pins: 2; Contact Plating: Tin; Case Code (Imperial): 2512; Case Code (Metric): 6432; Min Operating Temperature: -55°C; Max Operating Temperature: 170°C; Tolerance: 1%; Packaging: Tape and Reel; Package Quantity: 1; Termination: SMD/SMT; Composition: Metal Film; Number of Terminations: 2; Military Standard: Not; Max Power Dissipation: 3W; Features: Moisture Resistant; Length: 6.4mm; Height: 0.6mm; Width: 3.2mm; Depth: 3.2mm; Radiation Hardening: No; REACH SVHC: No SVHC; ComponentLink1URL: https://datasheet.ciiva.com/15225/getdatasheetpartid-73855-15225377.pdf?src-supplier=Verical; ComponentLink1Description: https://datasheet.ciiva.com/15225/getdatasheetpartid-73855-15225377.pdf?src-supplier=Verical; ComponentLink2URL: https://datasheet.ciiva.com/22692/1828418-22692561.pdf?src-supplier=Element14; ComponentLink2Description: https://datasheet.ciiva.com/22692/1828418-22692561.pdf?src-supplier=Element14; ComponentLink3URL: https://datasheet.ciiva.com/11810/0900766b80ddce06-11810742.pdf?src-supplier=RSComponents; ComponentLink3Description: https://datasheet.ciiva.com/11810/0900766b80ddce06-11810742.pdf?src-supplier=RSComponents; ComponentLink4URL: https://datasheet.ciiva.com/2481/cra-2481796.pdf?src-supplier=Digi-Key; ComponentLink4Description: https://datasheet.ciiva.com/2481/cra-2481796.pdf?src-supplier=Digi-Key; ComponentLink5URL: https://datasheet.ciiva.com/2481/cra-2481797.pdf?src-supplier=Digi-Key; ComponentLink5Description: https://datasheet.ciiva.com/2481/cra-2481797.pdf?src-supplier=Digi-Key; ComponentLink6URL: https://datasheet.ciiva.com/16775/70154444-16775925.pdf?src-supplier=Allied+Electronics; ComponentLink6Description: https://datasheet.ciiva.com/16775/70154444-16775925.pdf?src-supplier=Allied+Electronics; ComponentLink7URL: https://datasheet.ciiva.com/2481/cra-2481798.pdf?src-supplier=Digi-Key; ComponentLink7Description: https://datasheet.ciiva.com/2481/cra-2481798.pdf?src-supplier=Digi-Key; ComponentLink8URL: https://datasheet.ciiva.com/16941/cra-16941096.pdf?src-supplier=Avnet+Europe; ComponentLink8Description: https://datasheet.ciiva.com/16941/cra-16941096.pdf?src-supplier=Avnet+Europe; ComponentLink9URL: https://datasheet.ciiva.com/1480/1849485-1480650.pdf?src-supplier=Element14; ComponentLink9Description: https://datasheet.ciiva.com/1480/1849485-1480650.pdf?src-supplier=Element14; ComponentLink10URL: https://datasheet.ciiva.com/30143/937cra-30143262.pdf?src-supplier=Onlinecomponents.com; ComponentLink10Description: https://datasheet.ciiva.com/30143/937cra-30143262.pdf?src-supplier=Onlinecomponents.com; Supplier Part Number 1: 70154444
footprint RESC6332N(2512") (Chip Resistor, Body 6.3x3.2mm (2512"), IPC Medium Density)
pins: 1, 2

## CRA2512-FZ-R015ELF
designator R?  Resistance: 15m  (hidden comment: *)
RES SMD 15 MOHM 1% 3W 2512; Manufacturer: Bourns; Manufacturer Part Number: CRA2512-FZ-R015ELF; Temperature Coefficient: 75ppm/°C; Supplier 1: Digi-Key; Stock 1: 23418; Pricing 1: 1 = 0.69000, 10 = 0.57800, 25 = 0.49560, 50 = 0.44600, 100 = 0.38810, 250 = 0.34684, 500 = 0.28078, 1000 = 0.22710 (USD); RoHS: Yes; Mount: Surface Mount; Case/Package: 2512; Case Code (Metric): 6432; Case Code (Imperial): 2512; Min Operating Temperature: -55°C; Max Operating Temperature: 170°C; Power Rating: 3W; Tolerance: 1%; Packaging: Tape and Reel; Package Quantity: 1; Composition: Metal Film; Number of Terminations: 2; Military Standard: Not; Termination: Solder; Max Power Dissipation: 3W; Features: Moisture Resistant; Length: 0.254inch; Height: 0.035inch; Width: 0.126inch; Depth: 3.2mm; REACH SVHC: No SVHC; Lead Free: Lead Free; ComponentLink1URL: https://datasheet.ciiva.com/11809/0900766b80ddce06-11809887.pdf?src-supplier=RSComponents; ComponentLink1Description: https://datasheet.ciiva.com/11809/0900766b80ddce06-11809887.pdf?src-supplier=RSComponents; ComponentLink2URL: https://datasheet.ciiva.com/6548/cra-6548395.pdf?src-supplier=Digi-Key; ComponentLink2Description: https://datasheet.ciiva.com/6548/cra-6548395.pdf?src-supplier=Digi-Key; ComponentLink3URL: https://datasheet.ciiva.com/6548/cra-6548411.pdf?src-supplier=Digi-Key; ComponentLink3Description: https://datasheet.ciiva.com/6548/cra-6548411.pdf?src-supplier=Digi-Key; ComponentLink4URL: https://datasheet.ciiva.com/6548/cra-6548413.pdf?src-supplier=Digi-Key; ComponentLink4Description: https://datasheet.ciiva.com/6548/cra-6548413.pdf?src-supplier=Digi-Key; ComponentLink5URL: https://datasheet.ciiva.com/48692/001055548-da-01-en-wid-cra2512-fz-r015elf-0-015-ohm-3w-1-48692039.pdf?src-supplier=Conrad; ComponentLink5Description: https://datasheet.ciiva.com/48692/001055548-da-01-en-wid-cra2512-fz-r015elf-0-015-ohm-3w-1-48692039.pdf?src-supplier=Conrad; Supplier Part Number 1: CRA2512-FZ-R015ELFCT-ND
footprint RESC6332N(2512") (Chip Resistor, Body 6.3x3.2mm (2512"), IPC Medium Density)
pins: 1, 2

## CRCW080510K0FKEA
designator R?  Resistance: 10k  (hidden comment: *)
RES SMD 10K OHM 1% 1/8W 0805; Manufacturer: Vishay; Manufacturer Part Number: CRCW080510K0FKEA; Temperature Coefficient: 100ppm/°C; Power Rating: 125mW; Voltage Rating: 150V; Supplier 1: Digi-Key; Stock 1: 374664; Pricing 1: 1 = 0.10000, 10 = 0.06600, 100 = 0.02670, 1000 = 0.01199, 2500 = 0.01041 (USD); RoHS: Yes; Case/Package: 0805; Weight: 0.000194oz; Contact Plating: Tin; Case Code (Imperial): 0805; Case Code (Metric): 2012; Min Operating Temperature: -55°C; Max Operating Temperature: 155°C; Tolerance: 1%; Composition: Thick Film; Packaging: Tape and Reel; Package Quantity: 5000; Military Standard: Not; Termination: SMD/SMT; Voltage Rating (DC): 150V; Length: 2mm; Height: 0.45mm; Width: 1.25mm; Depth: 1.25mm; Radiation Hardening: No; Lead Free: Lead Free; REACH SVHC: Unknown; ComponentLink1URL: https://datasheet.ciiva.com/11808/0900766b80d98b26-11808216.pdf?src-supplier=RSComponents; ComponentLink1Description: https://datasheet.ciiva.com/11808/0900766b80d98b26-11808216.pdf?src-supplier=RSComponents; ComponentLink2URL: https://datasheet.ciiva.com/16514/dcrcwe3-16514907.pdf?src-supplier=Avnet+Asia; ComponentLink2Description: https://datasheet.ciiva.com/16514/dcrcwe3-16514907.pdf?src-supplier=Avnet+Asia; ComponentLink3URL: https://datasheet.ciiva.com/16883/dcrcwe3-16883708.pdf?src-supplier=Avnet+Europe; ComponentLink3Description: https://datasheet.ciiva.com/16883/dcrcwe3-16883708.pdf?src-supplier=Avnet+Europe; ComponentLink4URL: https://datasheet.ciiva.com/8337/dcrcwe3-8337773.pdf?src-supplier=Avnet; ComponentLink4Description: https://datasheet.ciiva.com/8337/dcrcwe3-8337773.pdf?src-supplier=Avnet; ComponentLink5URL: https://datasheet.ciiva.com/16755/70201119-16755389.pdf?src-supplier=Allied+Electronics; ComponentLink5Description: https://datasheet.ciiva.com/16755/70201119-16755389.pdf?src-supplier=Allied+Electronics; ComponentLink6URL: https://datasheet.ciiva.com/46394/1720486-46394381.pdf?src-supplier=Element14; ComponentLink6Description: https://datasheet.ciiva.com/46394/1720486-46394381.pdf?src-supplier=Element14; ComponentLink7URL: https://datasheet.ciiva.com/8337/dcrcwe3-8337774.pdf?src-supplier=Avnet; ComponentLink7Description: https://datasheet.ciiva.com/8337/dcrcwe3-8337774.pdf?src-supplier=Avnet; ComponentLink8URL: https://datasheet.ciiva.com/16199/dcrcwe3-16199086.pdf?src-supplier=Future+Electronics; ComponentLink8Description: https://datasheet.ciiva.com/16199/dcrcwe3-16199086.pdf?src-supplier=Future+Electronics; ComponentLink9URL: https://datasheet.ciiva.com/5547/dcrcwe3-109170-5547559.pdf?src-supplier=Mouser; ComponentLink9Description: https://datasheet.ciiva.com/5547/dcrcwe3-109170-5547559.pdf?src-supplier=Mouser; ComponentLink10URL: https://datasheet.ciiva.com/16719/70201119-16719082.pdf?src-supplier=Allied+Electronics; ComponentLink10Description: https://datasheet.ciiva.com/16719/70201119-16719082.pdf?src-supplier=Allied+Electronics; Supplier Part Number 1: 541-10.0KCCT-ND
footprint RESC2012N(0805") (Chip Resistor, Body 2.0x1.3mm (0805"), IPC Medium Density)
pins: 1, 2

## CRCW0805249KFKEA
designator R?  Resistance: 249k  (hidden comment: *)
RES SMD 249K OHM 1% 1/8W 0805; Manufacturer: Vishay; Manufacturer Part Number: CRCW0805249KFKEA; Power Rating: 125mW; Temperature Coefficient: 100ppm/°C; Voltage Rating: 150V; Supplier 1: Digi-Key; Stock 1: 10745; Pricing 1: 1 = 0.10000, 10 = 0.06600, 100 = 0.02670, 1000 = 0.01199, 2500 = 0.01041 (USD); RoHS: Yes; Case/Package: 0805; Weight: 0.000194oz; Contact Plating: Tin; Case Code (Metric): 2012; Case Code (Imperial): 0805; Min Operating Temperature: -55°C; Max Operating Temperature: 155°C; Tolerance: 1%; Composition: Thick Film; Packaging: Tape and Reel; Package Quantity: 10; Number of Terminations: 2; Termination: SMD/SMT; Max Power Dissipation: 125mW; Features: Automotive AEC-Q200; Military Standard: Not; Voltage Rating (DC): 150V; Length: 2mm; Height: 0.45mm; Width: 0.049inch; Depth: 1.25mm; Radiation Hardening: No; Lead Free: Lead Free; REACH SVHC: Unknown; ComponentLink1URL: https://datasheet.ciiva.com/11810/0900766b80d98b26-11810118.pdf?src-supplier=RSComponents; ComponentLink1Description: https://datasheet.ciiva.com/11810/0900766b80d98b26-11810118.pdf?src-supplier=RSComponents; ComponentLink2URL: https://datasheet.ciiva.com/8953/dcrcwe3-8953862.pdf?src-supplier=Avnet; ComponentLink2Description: https://datasheet.ciiva.com/8953/dcrcwe3-8953862.pdf?src-supplier=Avnet; ComponentLink3URL: https://datasheet.ciiva.com/2495/dcrcwe3-2495575.pdf?src-supplier=Digi-Key; ComponentLink3Description: https://datasheet.ciiva.com/2495/dcrcwe3-2495575.pdf?src-supplier=Digi-Key; ComponentLink4URL: https://datasheet.ciiva.com/2495/dcrcwe3-2495576.pdf?src-supplier=Digi-Key; ComponentLink4Description: https://datasheet.ciiva.com/2495/dcrcwe3-2495576.pdf?src-supplier=Digi-Key; ComponentLink5URL: https://datasheet.ciiva.com/3258/dcrcwe3-3258360.pdf?src-supplier=Avnet; ComponentLink5Description: https://datasheet.ciiva.com/3258/dcrcwe3-3258360.pdf?src-supplier=Avnet; ComponentLink6URL: https://datasheet.ciiva.com/2495/dcrcwe3-2495577.pdf?src-supplier=Digi-Key; ComponentLink6Description: https://datasheet.ciiva.com/2495/dcrcwe3-2495577.pdf?src-supplier=Digi-Key; ComponentLink7URL: https://datasheet.ciiva.com/16853/dcrcwe3-16853034.pdf?src-supplier=Avnet+Europe; ComponentLink7Description: https://datasheet.ciiva.com/16853/dcrcwe3-16853034.pdf?src-supplier=Avnet+Europe; ComponentLink8URL: https://datasheet.ciiva.com/22709/1533075-22709070.pdf?src-supplier=Element14; ComponentLink8Description: https://datasheet.ciiva.com/22709/1533075-22709070.pdf?src-supplier=Element14; ComponentLink9URL: https://datasheet.ciiva.com/5550/dcrcwe3-109170-5550479.pdf?src-supplier=Mouser; ComponentLink9Description: https://datasheet.ciiva.com/5550/dcrcwe3-109170-5550479.pdf?src-supplier=Mouser; ComponentLink10URL: https://datasheet.ciiva.com/7674/1533075-7674111.pdf?src-supplier=Element14; ComponentLink10Description: https://datasheet.ciiva.com/7674/1533075-7674111.pdf?src-supplier=Element14; Supplier Part Number 1: 541-249KCCT-ND; Value: 249k
footprint RESC2012N(0805") (Chip Resistor, Body 2.0x1.3mm (0805"), IPC Medium Density)
pins: 1, 2

## CSD18504Q5A
designator M?  Drain to Source Voltage (Vdss): 40V  (hidden comment: *)
MOSFET N-CH 40V 8SON; Manufacturer: Texas Instruments; Manufacturer Part Number: CSD18504Q5A; Rise Time: 6.8ns; Continuous Drain Current (ID): 50A; Turn-Off Delay Time: 12ns; Fall Time: 2ns; Gate to Source Voltage (Vgs): 20V; Turn-On Delay Time: 3.2ns; Rds On Max: 6.6mR; Max Power Dissipation: 3.1W; Drain to Source Resistance: 7.5mR; Element Configuration: Single; Input Capacitance: 1.656nF; Threshold Voltage: 1.9V; Number of Elements: 1; Supplier 1: Digi-Key; Stock 1: 72450; Pricing 1: 1 = 1.12000, 10 = 0.99000, 100 = 0.78230, 500 = 0.60668, 1000 = 0.47895 (USD); RoHS: Yes; Mount: Surface Mount; Number of Pins: 8; Contact Plating: Tin; Min Operating Temperature: -55°C; Max Operating Temperature: 150°C; Package Quantity: 1; Packaging: Tape and Reel; Drain to Source Breakdown Voltage: 40V; Power Dissipation: 3.1W; Length: 5.8mm; Height: 1.1mm; Width: 5mm; Radiation Hardening: No; REACH SVHC: No SVHC; ComponentLink1URL: https://datasheet.ciiva.com/14192/csd18504q5a-14192913.pdf?src-supplier=Avnet; ComponentLink1Description: https://datasheet.ciiva.com/14192/csd18504q5a-14192913.pdf?src-supplier=Avnet; ComponentLink2URL: https://datasheet.ciiva.com/13063/csd18504q5a-123974-13063385.pdf?src-supplier=Mouser; ComponentLink2Description: https://datasheet.ciiva.com/13063/csd18504q5a-123974-13063385.pdf?src-supplier=Mouser; ComponentLink3URL: https://datasheet.ciiva.com/6386/csd18504q5a-6386886.pdf?src-supplier=Digi-Key; ComponentLink3Description: https://datasheet.ciiva.com/6386/csd18504q5a-6386886.pdf?src-supplier=Digi-Key; ComponentLink4URL: https://datasheet.ciiva.com/6386/csd18504q5a-6386887.pdf?src-supplier=Digi-Key; ComponentLink4Description: https://datasheet.ciiva.com/6386/csd18504q5a-6386887.pdf?src-supplier=Digi-Key; ComponentLink5URL: https://datasheet.ciiva.com/6386/csd18504q5a-6386888.pdf?src-supplier=Digi-Key; ComponentLink5Description: https://datasheet.ciiva.com/6386/csd18504q5a-6386888.pdf?src-supplier=Digi-Key; ComponentLink6URL: https://datasheet.ciiva.com/26147/csd18504q5a-26147849.pdf?src-supplier=Avnet+Europe; ComponentLink6Description: https://datasheet.ciiva.com/26147/csd18504q5a-26147849.pdf?src-supplier=Avnet+Europe; Supplier Part Number 1: 296-30572-1-ND
footprint DQJ8
pins: 1 S, 2 S, 3 S, 4 G, 5 D, 6 D, 7 D, 8 D